# Altium schematic symbol library default_schematics_simon.SchLib: 96 symbols
Pins are listed as number, name and electrical type; pins without a type are passive.

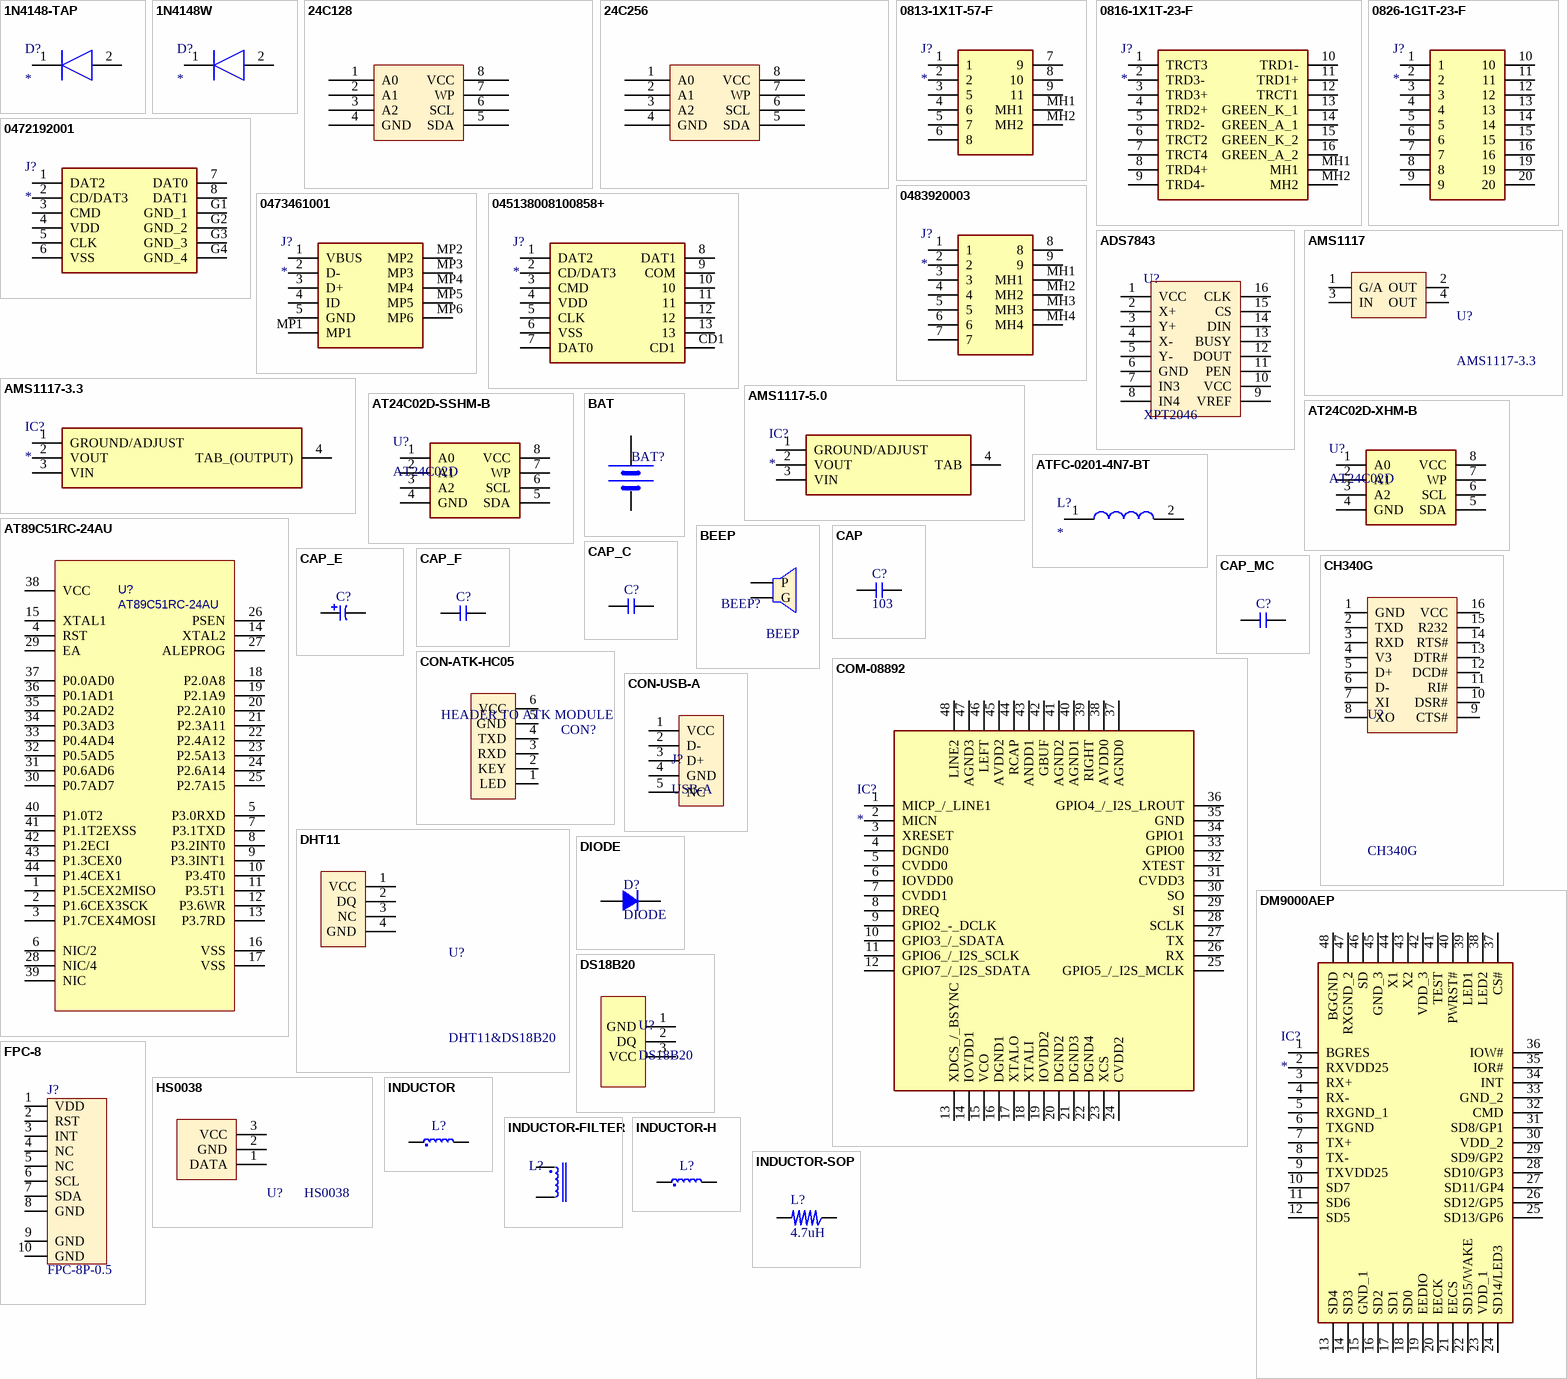
[diagram p0: symbols 1N4148-TAP to INDUCTOR-SOP]

## 1N4148-TAP
designator D?
Diode; Manufacturer_Name: Vishay; Manufacturer_Part_Number: 1N4148-TAP; Datasheet Link: https://componentsearchengine.com/Datasheets/1/1N4148-TAP.pdf; Arrow Part Number: 1N4148-TAP; Arrow Price/Stock: https://www.arrow.com/en/products/1n4148-tap/vishay; Mouser Part Number: 78-1N4148-TAP; Mouser Price/Stock: https://www.mouser.co.uk/ProductDetail/Vishay-Semiconductors/1N4148-TAP?qs=j6bfm3UnQnzzWicd%2FOfTEw%3D%3D
footprint DIOAD950W60L350D150
pins: 1 K, 2 A

## 1N4148W
designator D?
Diode; Manufacturer_Name: Vishay; Manufacturer_Part_Number: 1n4148w; Datasheet Link: http://www.vishay.com/docs/85748/1n4148w.pdf; Height: 1.35mm; Arrow Part Number: 1n4148w
footprint SOD3716X135N
pins: 1 K, 2 A

## 24C128
designator U?
CMOS I2C 2-WIRE BUS 128K ELECTRICALLY ERASABLE PROGRAMMABLE ROM 16K X 8 BIT EEPROM
footprint SOP8-4R0
pins: 1 A0, 2 A1, 3 A2, 4 GND, 5 SDA, 6 SCL, 7 WP, 8 VCC

## 24C256
designator U?
CMOS I2C 2-WIRE BUS 256K ELECTRICALLY ERASABLE PROGRAMMABLE ROM 32K X 8 BIT EEPROM
footprint SOP8-4R0
pins: 1 A0, 2 A1, 3 A2, 4 GND, 5 SDA, 6 SCL, 7 WP, 8 VCC

## 0813-1X1T-57-F
designator J?
Connector; Manufacturer_Name: Bel-Stewart; Manufacturer_Part_Number: 0813-1X1T-57-F; Datasheet Link: https://www.belfuse.com/resources/ICMs/ICMs%20Drawings/0813-1X1T-57-F.pdf; Height: 13mm; Arrow Part Number: 0813-1X1T-57-F; Arrow Price/Stock: https://www.arrow.com/en/products/0813-1x1t-57-f/bel-group; Mouser Part Number: 530-0813-1X1T-57-F
footprint 08131X1T57F
pins: 1, 2, 3 5, 4 6, 5 7, 6 8, 7 9, 8 10, 9 11, MH1, MH2

## 0816-1X1T-23-F
designator J?
Connector; Manufacturer_Name: Bel Magnetic Solutions; Manufacturer_Part_Number: 0816-1X1T-23-F; Datasheet Link: https://componentsearchengine.com/Datasheets/1/0816-1X1T-23-F.pdf; Height: 11.43mm; Arrow Part Number: 0816-1X1T-23-F; Mouser Part Number: 530-0816-1X1T-23-F; Mouser Price/Stock: https://www.mouser.com/Search/Refine.aspx?Keyword=530-0816-1X1T-23-F
footprint 08161X1T23F
pins: 1 TRCT3, 2 TRD3-, 3 TRD3+, 4 TRD2+, 5 TRD2-, 6 TRCT2, 7 TRCT4, 8 TRD4+, 9 TRD4-, 10 TRD1-, 11 TRD1+, 12 TRCT1, 13 GREEN_K_1, 14 GREEN_A_1, 15 GREEN_K_2, 16 GREEN_A_2, MH1, MH2

## 0826-1G1T-23-F
designator J?
Connector; Manufacturer_Name: Bel; Manufacturer_Part_Number: 0826-1G1T-23-F; Datasheet Link: https://belfuse.com/resources/StewartConnector/0826-1G1T-23-F.pdf; Height: 13.61mm; Arrow Part Number: 0826-1G1T-23-F; Mouser Part Number: 530-0826-1G1T-23-F
footprint 08261G1T23F
pins: 1, 2, 3, 4, 5, 6, 7, 8, 9, 10, 11, 12, 13, 14, 15, 16, 19, 20

## 0472192001
designator J?
Connector; Manufacturer_Name: Molex; Manufacturer_Part_Number: 0472192001; Datasheet Link: https://www.molex.com/pdm_docs/sd/472192001_sd.pdf; Height: 1.9mm; Arrow Part Number: 0472192001; Arrow Price/Stock: https://www.arrow.com/en/products/0472192001/molex; Mouser Part Number: N/A; Mouser Price/Stock: https://www.mouser.com/Search/Refine.aspx?Keyword=N%2FA
footprint 0472192001
pins: 1 DAT2, 2 CD/DAT3, 3 CMD, 4 VDD, 5 CLK, 6 VSS, 7 DAT0, 8 DAT1, G1 GND_1, G2 GND_2, G3 GND_3, G4 GND_4

## 0473461001
designator J?
Connector; Manufacturer_Name: Molex; Manufacturer_Part_Number: 0473461001; Datasheet Link: https://componentsearchengine.com/Datasheets/1/0473461001.pdf; Height: 2.45mm; Arrow Part Number: 0473461001; Arrow Price/Stock: https://www.arrow.com/en/products/0473461001/molex; Mouser Part Number: N/A; Mouser Price/Stock: https://www.mouser.com/Search/Refine.aspx?Keyword=N%2FA
footprint 0473461001
pins: 1 VBUS, 2 D-, 3 D+, 4 ID, 5 GND, MP1, MP2, MP3, MP4, MP5, MP6

## 0483920003
designator J?
Connector; Manufacturer_Name: Molex; Manufacturer_Part_Number: 0483920003; Datasheet Link: http://rhu103.sma-promail.com/SQLImages/kelmscott/Molex/PDF_Images/987651-0181.PDF; Height: 6.92mm; Arrow Part Number: 0483920003; Arrow Price/Stock: https://www.arrow.com/en/products/0483920003/molex; Mouser Part Number: N/A; Mouser Price/Stock: https://www.mouser.co.uk/ProductDetail/Molex/0483920003?qs=PBcRNPEHKso%252BRGJI%2FylU3A%3D%3D
footprint 0483920003
pins: 1, 2, 3, 4, 5, 6, 7, 8, 9, MH1, MH2, MH3, MH4

## 045138008100858+
designator J?
Connector; Manufacturer_Name: AVX; Manufacturer_Part_Number: 045138008100858+; Datasheet Link: https://www.mouser.sg/datasheet/2/909/5138-1359342.pdf; Height: 1.4mm; Arrow Part Number: 045138008100858+; Arrow Price/Stock: https://www.arrow.com/en/products/045138008100858/avx; Mouser Part Number: 581-045138008100858+; Mouser Price/Stock: https://www.mouser.com/Search/Refine.aspx?Keyword=581-045138008100858%2B
footprint 045138008100858
pins: 1 DAT2, 2 CD/DAT3, 3 CMD, 4 VDD, 5 CLK, 6 VSS, 7 DAT0, 8 DAT1, 9 COM, 10, 11, 12, 13, CD1

## ADS7843
designator U?, comment XPT2046
footprint SSOP16 (ADS7843,P2P:0.625mm,w:6mm)
pins: 1 VCC, 2 X+, 3 Y+, 4 X-, 5 Y-, 6 GND, 7 IN3, 8 IN4, 9 VREF, 10 VCC, 11 PEN, 12 DOUT, 13 BUSY, 14 DIN, 15 CS, 16 CLK

## AMS1117
designator U?, comment AMS1117-3.3
footprint SOT223
footprint SOT223-AMS1117 (AMS1117)
pins: 1 G/A, 2 OUT, 3 IN, 4 OUT

## AMS1117-3.3
designator IC?
Integrated Circuit; Manufacturer_Name: Advanced Monolithic Systems; Manufacturer_Part_Number: ams1117-3.3v; Datasheet Link: http://www.advanced-monolithic.com/pdf/ds1117.pdf; Height: 1.8mm; Arrow Part Number: ams1117-3.3v
footprint SOT229P700X180-4N
pins: 1 GROUND/ADJUST, 2 VOUT, 3 VIN, 4 TAB_(OUTPUT)

## AMS1117-5.0
designator IC?
Integrated Circuit; Manufacturer_Name: Advanced Monolithic Systems; Manufacturer_Part_Number: AMS1117-5.0; Datasheet Link: http://www.advanced-monolithic.com/pdf/ds1117.pdf; Height: 1.8mm; Arrow Part Number: AMS1117-5.0
footprint SOT229P700X180-4N
pins: 1 GROUND/ADJUST, 2 VOUT, 3 VIN, 4 TAB

## AT24C02D-SSHM-B
designator U?, comment AT24C02D
Integrated Circuit; Manufacturer_Name: Microchip; Manufacturer_Part_Number: AT24C02D-SSHM-B; Datasheet Link: http://www.atmel.com/images/Atmel-8871-SEEPROM-AT24C01D-02D-Datasheet.pdf; Height: 1.75mm; Arrow Part Number: AT24C02D-SSHM-B; Arrow Price/Stock: https://www.arrow.com/en/products/at24c02d-sshm-b/microchip-technology; Mouser Part Number: 556-AT24C02D-SSHM-B; Mouser Price/Stock: https://www.mouser.co.uk/ProductDetail/Microchip-Technology-Atmel/AT24C02D-SSHM-B?qs=l5F7KFZg3O5xH%2Fgf1EqmGg%3D%3D
footprint SOIC127P600X175-8N
pins: 1 A0, 2 A1, 3 A2, 4 GND, 5 SDA, 6 SCL, 7 WP, 8 VCC

## AT24C02D-XHM-B
designator U?, comment AT24C02D
Integrated Circuit; Manufacturer_Name: Microchip; Manufacturer_Part_Number: AT24C02D-XHM-B; Datasheet Link: http://www.atmel.com/images/Atmel-8871-SEEPROM-AT24C01D-02D-Datasheet.pdf; Height: 1.2mm; Arrow Part Number: AT24C02D-XHM-B; Arrow Price/Stock: https://www.arrow.com/en/products/at24c02d-xhm-b/microchip-technology; Mouser Part Number: 556-AT24C02D-XHM-B; Mouser Price/Stock: https://www.mouser.co.uk/ProductDetail/Microchip-Technology-Atmel/AT24C02D-XHM-B?qs=l5F7KFZg3O7B0M3qw2CUNw%3D%3D
footprint SOP65P640X120-8N
pins: 1 A0, 2 A1, 3 A2, 4 GND, 5 SDA, 6 SCL, 7 WP, 8 VCC

## AT89C51RC-24AU
designator U?
BOM_Manufacturer: MICROCHIP; SMT Type: Extend; BOM_Supplier: LCSC; BOM_Manufacturer Part: AT89C51RC-24AU; BOM_Supplier Part: C8729; BOM_LCSC Assembly: Yes; spicePre: U
footprint TQFP44N-80P1200X1200X160 (TQFP, 44-Leads, Body 10.00x10.00mm, Pitch 0.80mm, IPC Medium Density)
pins: 1 P1.5CEX2MISO, 2 P1.6CEX3SCK, 3 P1.7CEX4MOSI, 4 RST, 5 P3.0RXD, 6 NIC/2, 7 P3.1TXD, 8 P3.2INT0, 9 P3.3INT1, 10 P3.4T0, 11 P3.5T1, 12 P3.6WR, 13 P3.7RD, 14 XTAL2, 15 XTAL1, 16 VSS, 17 VSS, 18 P2.0A8, 19 P2.1A9, 20 P2.2A10, 21 P2.3A11, 22 P2.4A12, 23 P2.5A13, 24 P2.6A14, 25 P2.7A15, 26 PSEN, 27 ALEPROG, 28 NIC/4, 29 EA, 30 P0.7AD7, 31 P0.6AD6, 32 P0.5AD5, 33 P0.4AD4, 34 P0.3AD3, 35 P0.2AD2, 36 P0.1AD1, 37 P0.0AD0, 38 VCC, 39 NIC, 40 P1.0T2, 41 P1.1T2EXSS, 42 P1.2ECI, 43 P1.3CEX0, 44 P1.4CEX1

## ATFC-0201-4N7-BT
designator L?
Inductor; Manufacturer_Name: ABRACON; Manufacturer_Part_Number: ATFC-0201-4N7-BT; Datasheet Link: http://www.abracon.com/Magnetics/new/ATFC-0201.pdf; Height: 0.28mm; Arrow Part Number: ATFC-0201-4N7-BT; Mouser Part Number: 815-ATFC-0201-4N7-BT; Mouser Price/Stock: https://www.mouser.co.uk/ProductDetail/ABRACON/ATFC-0201-4N7-BT?qs=Y3s8Jkk9bu%252Bj8bjETue%2FCw%3D%3D
footprint INDC0603X28N
pins: 1, 2

## BAT
designator BAT?, comment BATT  (value not drawn)
BATTERY
footprint BATM-CR1220 (BATTERY)
pins: 1 VCC, 2 GND

## BEEP
designator BEEP?
footprint BELL-7R6-12 (TMB12A05,TMB12A03,HYT-1201,HYT-1203,HYT-1205)
pins: 1 P, 2 G

## CAP
designator C?, comment 103
Capacitor, SMD, 103,104
footprint 0603C
footprint 0402C
footprint 0805C
footprint 1206C
pins: 1, 1

## CAP_C
designator C?, comment 102/1kV  (value not drawn)
Ceramic Capacitor,KM,KP,RH,HP,RT,RS,GK,GT,blue
footprint CAPC-2R0X5R0-0R8
footprint CAPC-2R5X6R0-0R8
footprint CAPC-2R5X6R3-0R8
footprint CAPC-3R5X8R0-0R8
footprint cApc-5r0x10r0-0r9
footprint CAPC-SM-1R0X4R0-1
footprint CAPC-SM-1R4X5R0-1
footprint CAPC-SM-4R0X13R6
pins: 1, 1

## CAP_E
designator C?, comment 2uF  (value not drawn)
Electronic Capacitor, black
footprint CAPC-2R0X5R0-0R8
footprint CAPC-2R5X6R0-0R8
footprint CAPC-2R5X6R3-0R8
footprint CAPC-3R5X8R0-0R8
footprint CAPC-SM-1R0X4R0-1
footprint CAPC-SM-1R4X5R0-1
footprint CAPC-SM-4R0X13R6
pins: 1, 1

## CAP_F
designator C?, comment 103  (value not drawn)
Film Capacitor,square,yellow
pins: 1, 1

## CAP_MC
designator C?, comment 47uF  (value not drawn)
Multiplayer Ceramic Capacitor,little yellow
pins: 1, 1

## CH340G
designator U?
USB 2.0 to UART interface, 3.3V/5V
footprint SOP16M
pins: 1 GND, 2 TXD, 3 RXD, 4 V3, 5 D+, 6 D-, 7 XI, 8 XO, 9 CTS#, 10 DSR#, 11 RI#, 12 DCD#, 13 DTR#, 14 RTS#, 15 R232, 16 VCC

## COM-08892
designator IC?
Integrated Circuit; Manufacturer_Name: SparkFun; Manufacturer_Part_Number: COM-08892; Datasheet Link: https://www.google.co.jp/url?sa=t&rct=j&q=&esrc=s&source=web&cd=1&cad=rja&uact=8&ved=0ahUKEwiAkKC8ipDWAhWEWrwKHciZB0kQFggpMAA&url=https%3A%2F%2Fwww.sparkfun.com%2Fdatasheets%2FComponents%2FSMD%2Fvs1053.pdf&usg=AFQjCNGfjeIOxgMtdfoxEnZ7Zp1IsEDwzA; Height: 1.6mm; Arrow Part Number: COM-08892; Arrow Price/Stock: https://www.arrow.com/en/products/com-08892/sparkfun-electronics; Mouser Part Number: 474-COM-08892; Mouser Price/Stock: https://www.mouser.co.uk/ProductDetail/SparkFun/COM-08892?qs=WyAARYrbSnaNGwJFLRexLg%3D%3D
footprint QFP50P900X900X160-48N
pins: 1 MICP_/_LINE1, 2 MICN, 3 XRESET, 4 DGND0, 5 CVDD0, 6 IOVDD0, 7 CVDD1, 8 DREQ, 9 GPIO2_-_DCLK, 10 GPIO3_/_SDATA, 11 GPIO6_/_I2S_SCLK, 12 GPIO7_/_I2S_SDATA, 13 XDCS_/_BSYNC, 14 IOVDD1, 15 VCO, 16 DGND1, 17 XTALO, 18 XTALI, 19 IOVDD2, 20 DGND2, 21 DGND3, 22 DGND4, 23 XCS, 24 CVDD2, 25 GPIO5_/_I2S_MCLK, 26 RX, 27 TX, 28 SCLK, 29 SI, 30 SO, 31 CVDD3, 32 XTEST, 33 GPIO0, 34 GPIO1, 35 GND, 36 GPIO4_/_I2S_LROUT, 37 AGND0, 38 AVDD0, 39 RIGHT, 40 AGND1, 41 AGND2, 42 GBUF, 43 ANDD1, 44 RCAP, 45 AVDD2, 46 LEFT, 47 AGND3, 48 LINE2

## CON-ATK-HC05
designator CON?, comment HEADER TO ATK MODULE
footprint HDR6 (6PIN X 2.54MM)
pins: 1 LED, 2 KEY, 3 RXD, 4 TXD, 5 GND, 6 VCC

## CON-USB-A
designator J?, comment USB-A
USB-A-SON
footprint USB-SM0R8-6H5
pins: 1 VCC "+5V", 2 D- "DATA -", 3 D+ "DATA +", 4 GND, 5 NC "GND"

## DHT11
designator U?, comment DHT11&DS18B20
数字温湿度传感器
footprint DHT11 (2.54mm)
pins: 1 VCC, 2 DQ, 3 NC, 4 GND

## DIODE
designator D?
footprint DIODE-SOP
footprint DIODE-3R0X5R3
footprint SOD-123 (2 pads, 1.8mm x 0.8mm)
pins: 1, 2

## DM9000AEP
designator IC?
Integrated Circuit; Manufacturer_Name: DAVICOM; Manufacturer_Part_Number: DM9000AEP; Datasheet Link: https://datasheet.lcsc.com/szlcsc/DAVICOM-DM9000AEP_C14875.pdf; Height: 1.6mm; Arrow Part Number: DM9000AEP
footprint QFP50P900X900X160-48N
pins: 1 BGRES, 2 RXVDD25, 3 RX+, 4 RX-, 5 RXGND_1, 6 TXGND, 7 TX+, 8 TX-, 9 TXVDD25, 10 SD7, 11 SD6, 12 SD5, 13 SD4, 14 SD3, 15 GND_1, 16 SD2, 17 SD1, 18 SD0, 19 EEDIO, 20 EECK, 21 EECS, 22 SD15/WAKE, 23 VDD_1, 24 SD14/LED3, 25 SD13/GP6, 26 SD12/GP5, 27 SD11/GP4, 28 SD10/GP3, 29 SD9/GP2, 30 VDD_2, 31 SD8/GP1, 32 CMD, 33 GND_2, 34 INT, 35 IOR#, 36 IOW#, 37 CS#, 38 LED2, 39 LED1, 40 PWRST#, 41 TEST, 42 VDD_3, 43 X2, 44 X1, 45 GND_3, 46 SD, 47 RXGND_2, 48 BGGND

## DS18B20
designator U?
Programmable Resolution 1-Wire Digital Thermometer
footprint TO92-1
footprint SOIC8 (SOIC8, total 7 pins without pin 7); pin to pad 1>5 2>4
pins: 1 GND, 2 DQ, 3 VCC

## FPC-8
designator J?, comment FPC-8P-0.5
FPC-8P-0.5mm
footprint FPC50
footprint FPC-8P (FPC;8P;0.5mm;)
pins: 1 VDD, 2 RST, 3 INT, 4 NC, 5 NC, 6 SCL, 7 SDA, 8 GND, 9 GND, 10 GND
2 alternate drawings of the same symbol

## HS0038
designator U?
footprint HS0038
pins: 1 DATA, 2 GND, 3 VCC

## INDUCTOR
designator L?, comment Inductor  (value not drawn)
footprint 0402L
pins: 1, 2

## INDUCTOR-FILTER
designator L?, comment Toradil Filtering-Inductor  (value not drawn)
Toroidal Filtering-Inductor,50~500kHz
pins: F, S

## INDUCTOR-H
designator L?, comment Inductor H-shaped  (value not drawn)
H-shaped
footprint IND-LH3x4-0R5 (Inductor H-shaped 3x4)
pins: 1, 2

## INDUCTOR-SOP
designator L?, comment 4.7uH
INDUCTOR-SOP
footprint L_SOPL (L_LARGE)
footprint L_SOPS (L_4*4)
footprint L10 (10mH)
footprint L-SOP74
pins: 1, 2

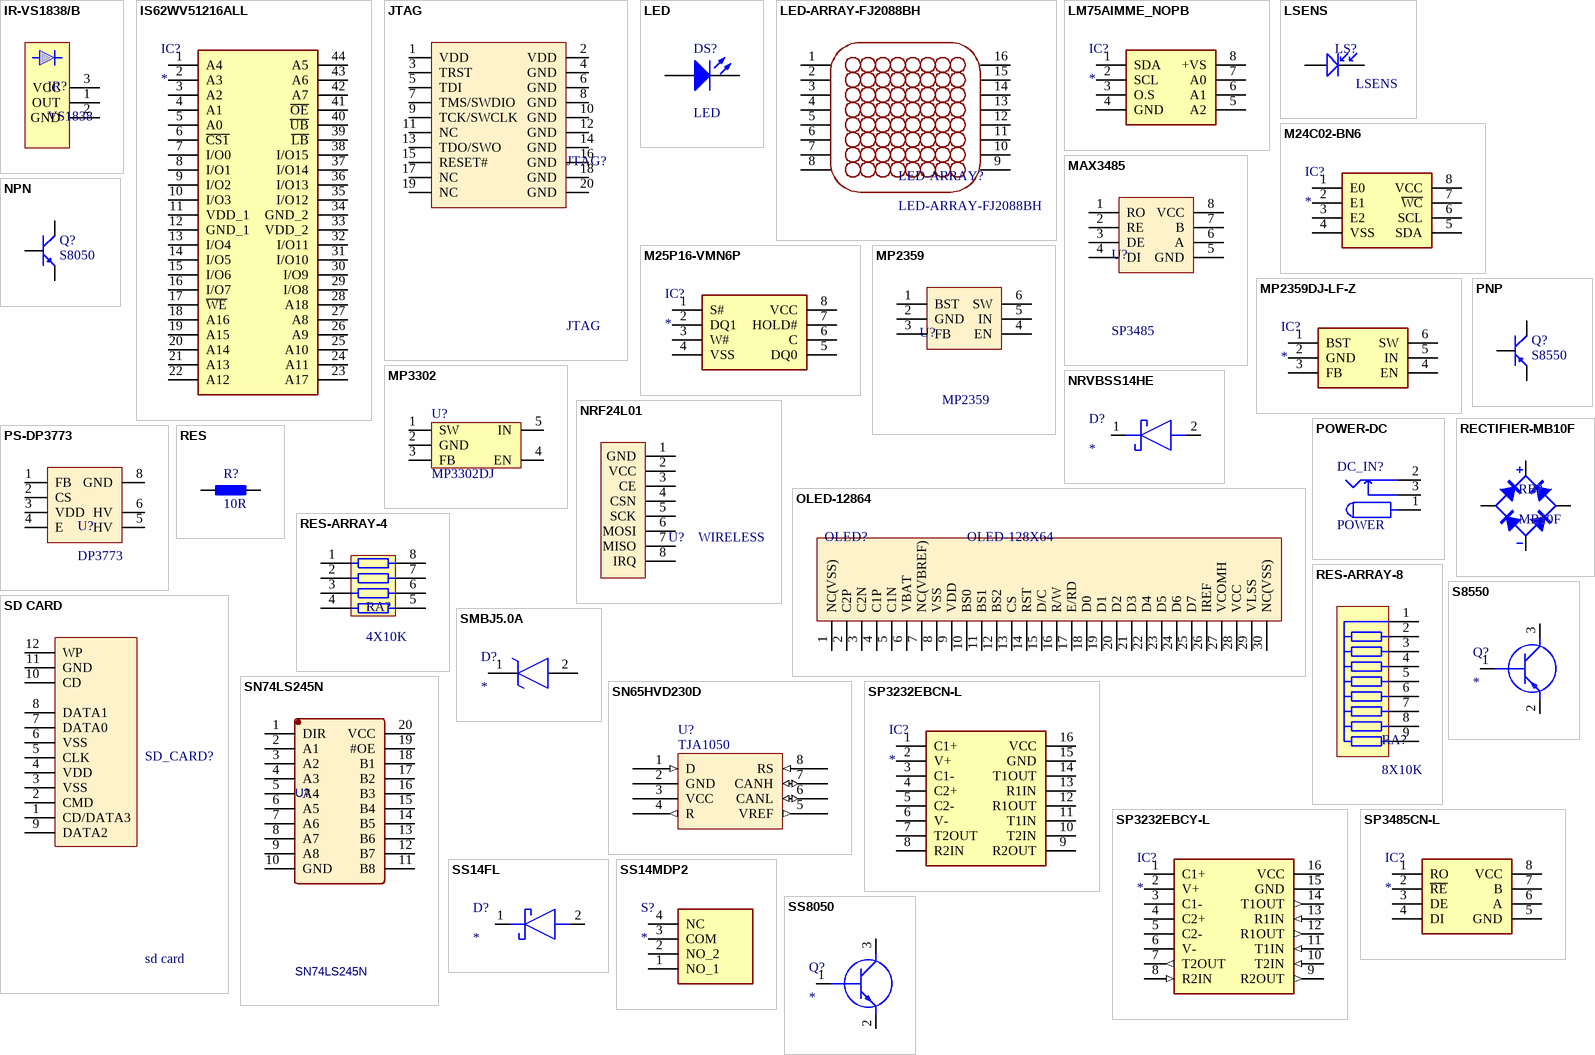
[diagram p1: symbols IR-VS1838/B to SS8050]

## IR-VS1838/B
designator IR?, comment VS1838
Infrared Receiver Module
footprint IR-VS1838/B
pins: 1 OUT, 2 GND, 3 VCC

## IS62WV51216ALL
designator IC?
Integrated Circuit; Manufacturer_Name: Integrated Silicon Solution Inc.; Manufacturer_Part_Number: IS62WV51216ALL; Datasheet Link: https://www.mouser.cn/datasheet/2/198/62WV51216ALL-258554.pdf; Height: 1.2mm; Arrow Part Number: IS62WV51216ALL; Mouser Part Number: N/A; Mouser Price/Stock: https://www.mouser.com/Search/Refine.aspx?Keyword=N%2FA
footprint SOP80P1176X120-44N
pins: 1 A4, 2 A3, 3 A2, 4 A1, 5 A0, 6 ~{CS1}, 7 I/O0, 8 I/O1, 9 I/O2, 10 I/O3, 11 VDD_1, 12 GND_1, 13 I/O4, 14 I/O5, 15 I/O6, 16 I/O7, 17 ~{WE}, 18 A16, 19 A15, 20 A14, 21 A13, 22 A12, 23 A17, 24 A11, 25 A10, 26 A9, 27 A8, 28 A18, 29 I/O8, 30 I/O9, 31 I/O10, 32 I/O11, 33 VDD_2, 34 GND_2, 35 I/O12, 36 I/O13, 37 I/O14, 38 I/O15, 39 ~{LB}, 40 ~{UB}, 41 ~{OE}, 42 A7, 43 A6, 44 A5

## JTAG
designator JTAG?
JTAG 20PIN
footprint JTAG_20 (JTAG,20PIN)
pins: 1 VDD, 2 VDD, 3 TRST, 4 GND, 5 TDI, 6 GND, 7 TMS/SWDIO, 8 GND, 9 TCK/SWCLK, 10 GND, 11 NC, 12 GND, 13 TDO/SWO, 14 GND, 15 RESET#, 16 GND, 17 NC, 18 GND, 19 NC, 20 GND

## LED
designator DS?
Typical RED, GREEN, YELLOW, AMBER GaAs LED; Published: 8-Jun-2000; LatestRevisionDate: 17-Jul-2002; LatestRevisionNote: Re-released for DXP Platform.; PackageDocument: Feb-2002; PackageReference: 3.2X1.6X1.1; Publisher: Altium Limited
footprint SMDLED
simulation model LED2 (Diode)
pins: 1 A, 2 K

## LED-ARRAY-FJ2088BH
designator LED-ARRAY?
8X8,RED,60.9X60.9,0R5; ComponentLink1Description: New link; ComponentLink1URL: https://item.szlcsc.com/54094.html
footprint LED-FJ2088BH
pins: 1, 2, 3, 4, 5, 6, 7, 8, 9, 10, 11, 12, 13, 14, 15, 16

## LM75AIMME_NOPB
designator IC?
Integrated Circuit; Manufacturer_Name: Texas Instruments; Manufacturer_Part_Number: LM75AIMME/NOPB; Description: &plusmn;2&deg;C; Datasheet Link: http://www.ti.com/lit/gpn/lm75a; Height: 1.1mm; Arrow Part Number: LM75AIMME/NOPB; Arrow Price/Stock: https://www.arrow.com/en/products/lm75aimmenopb/texas-instruments; Mouser Part Number: 926-LM75AIMME/NOPB; Mouser Price/Stock: https://www.mouser.co.uk/ProductDetail/Texas-Instruments/LM75AIMME-NOPB?qs=QbsRYf82W3G1kdVTjLoH3g%3D%3D
footprint SOP65P490X110-8N
pins: 1 SDA, 2 SCL, 3 O.S, 4 GND, 5 A2, 6 A1, 7 A0, 8 +VS

## LSENS
designator LS?
LIGHT SENS
footprint SMDLED
pins: 1, 2

## M24C02-BN6
designator IC?
Integrated Circuit; Manufacturer_Name: STMicroelectronics; Manufacturer_Part_Number: M24C02-BN6; Datasheet Link: http://datasheet.octopart.com/M24C02-BN6-STMicroelectronics-datasheet-2222.pdf; Height: 5.33mm; Arrow Part Number: M24C02-BN6
footprint DIP762W56P254L959H533Q8N
pins: 1 E0, 2 E1, 3 E2, 4 VSS, 5 SDA, 6 SCL, 7 ~{WC}, 8 VCC

## M25P16-VMN6P
designator IC?
Integrated Circuit; Manufacturer_Name: Micron; Manufacturer_Part_Number: M25P16-VMN6P; Description: Micron M25P16-VMN6P; Datasheet Link: https://www.micron.com/~/media/documents/products/data-sheet/nor-flash/serial-nor/m25p/m25p16.pdf; Height: 1.75mm; Arrow Part Number: M25P16-VMN6P; Arrow Price/Stock: https://www.arrow.com/en/products/m25p16-vmn6p/micron-technology; Mouser Part Number: 340-180484; Mouser Price/Stock: https://www.mouser.com/Search/Refine.aspx?Keyword=340-180484
footprint SOIC127P600X175-8N
pins: 1 S#, 2 DQ1, 3 W#, 4 VSS, 5 DQ0, 6 C, 7 HOLD#, 8 VCC

## MAX3485
designator U?, comment SP3485
MAX3485/SP3485
footprint SOP8
pins: 1 RO, 2 RE, 3 DE, 4 DI, 5 GND, 6 A, 7 B, 8 VCC

## MP2359
designator U?
DC DC Step Down IC
footprint SOT23-6
pins: 1 BST, 2 GND, 3 FB, 4 EN, 5 IN, 6 SW

## MP2359DJ-LF-Z
designator IC?
Integrated Circuit; Manufacturer_Name: Monolithic Power Systems (MPS); Manufacturer_Part_Number: MP2359DJ-LF-Z; Datasheet Link: http://www.mouser.com/ds/2/277/MP2359_r1.21-477634.pdf; Height: 1mm; Arrow Part Number: MP2359DJ-LF-Z; Mouser Part Number: 946-MP2359DJLFZ; Mouser Price/Stock: https://www.mouser.co.uk/ProductDetail/Monolithic-Power-Systems-MPS/MP2359DJ-LF-Z?qs=rC7bBWoQAAkgAaURxgQSyA%3D%3D
footprint SOT95P280X100-6N
pins: 1 BST, 2 GND, 3 FB, 4 EN, 5 IN, 6 SW

## MP3302
designator U?, comment MP3302DJ
LCD背光IC
footprint SOT-23-5
pins: 1 SW, 2 GND, 3 FB, 4 EN, 5 IN

## NPN
designator Q?, comment S8050
8050/BCW846/BCW847
footprint SOT23-R
pins: 1 E, 2 B, 3 C

## NRF24L01
designator U?, comment WIRELESS
WIRELESS NRF24L01 PORT
footprint HDR4X2
pins: 1 GND, 2 VCC, 3 CE, 4 CSN, 5 SCK, 6 MOSI, 7 MISO, 8 IRQ

## NRVBSS14HE
designator D?
Schottky Diode; Manufacturer_Name: ON Semiconductor; Manufacturer_Part_Number: NRVBSS14HE; Datasheet Link: https://www.onsemi.com/pub/Collateral/SS13HE-D.PDF; Height: 0.75mm; Arrow Part Number: NRVBSS14HE; Mouser Part Number: 863-NRVBSS14HE; Mouser Price/Stock: https://www.mouser.co.uk/ProductDetail/ON-Semiconductor/NRVBSS14HE?qs=%252BEew9%252B0nqrDZWtBeWXq9Sw%3D%3D
footprint NRVBSS14HE
pins: 1 K, 2 A

## OLED-12864
designator OLED?, comment OLED-128X64
OLED128X64
footprint OLED_0.96-30PIN
pins: 1 NC(VSS), 2 C2P, 3 C2N, 4 C1P, 5 C1N, 6 VBAT, 7 NC(VBREF), 8 VSS, 9 VDD, 10 BS0, 11 BS1, 12 BS2, 13 CS, 14 RST, 15 D/C, 16 R/W, 17 E/RD, 18 D0, 19 D1, 20 D2, 21 D3, 22 D4, 23 D5, 24 D6, 25 D7, 26 IREF, 27 VCOMH, 28 VCC, 29 VLSS, 30 NC(VSS)

## PNP
designator Q?, comment S8550
8550/BCW68
footprint SOT23-R
pins: 1 E, 2 B, 3 C

## POWER-DC
designator DC_IN?, comment POWER
DC_IN
footprint POWER (DC_IN)
footprint POWER-DC10B (DC POWERE INPUT)
pins: 1, 2, 3

## PS-DP3773
designator U?, comment DP3773
Quasi-Resonant PSR CC/CV PWM Power Switch,DP3773A/B/C/D/E; ComponentLink1Description: Link; ComponentLink1URL: http://www.depuw.com/productsearch.aspx?categoryid=50&Keywords=DP3773
footprint SOIC8-7 (SOIC8, total 7 pins without pin 7)
pins: 1 FB, 2 CS, 3 VDD, 4 E, 5 HV, 6 HV, 8 GND

## RECTIFIER-MB10F
designator RB?, comment MB10F
RECTIFIER-MB10F
footprint REC-MB10F (BRIDGE RECTIFIER)
pins: 1, 2, 2 4 "-", 2 3 "+"

## RES
designator R?, comment 10R
Resistor,10R,100K,10K
footprint 0402R
footprint 0603R
footprint 0805R
footprint 1206R
footprint R-AXIAL-0.3
footprint R-AXIAL-0.4
footprint R-AXIAL-0.5
footprint R-AXIAL-0.6
footprint R-AXIAL-0.7
pins: 1, 2

## RES-ARRAY-4
designator RA?, comment 4X10K
Resistor Network,4X10KOhm,0402/0603/1608
pins: 1, 2, 3, 4, 5, 6, 7, 8

## RES-ARRAY-8
designator RA?, comment 8X10K
Resistor Network,8X10KOhm,  9SIP
footprint RA-9PIN-8R
pins: 1, 2, 3, 4, 5, 6, 7, 8, 9

## S8550
designator Q?
Transistor BJT PNP; Manufacturer_Name: Galaxy; Manufacturer_Part_Number: S8550; Datasheet Link: http://www.gmicroelec.com/KUpload/product/TR/S8550%20SOT-23.pdf; Height: 1.1mm; Arrow Part Number: S8550
footprint SOT95P240X110-3N
pins: 1 B, 2 E, 3 C

## SD CARD
designator SD_CARD?, comment sd card
footprint SDCARD_S (SDCARD_SMALL)
footprint SDCARD_L
pins: 1 CD/DATA3, 2 CMD, 3 VSS, 4 VDD, 5 CLK, 6 VSS, 7 DATA0, 8 DATA1, 9 DATA2, 10 CD, 11 GND, 12 WP

## SMBJ5.0A
designator D?
TVS Diode (Uni-directional); Manufacturer_Name: Vishay; Manufacturer_Part_Number: SMBJ5.0A; Datasheet Link: http://www.vishay.com/docs/88392/smbj.pdf; Height: 2.44mm; Arrow Part Number: SMBJ5.0A
footprint DIOM5436X244N
pins: 1 K, 2 A

## SN65HVD230D
designator U?, comment TJA1050
TJA1050, SN65HVD230D
footprint SOP8
footprint SO8-150
pins: 1 D (in), 2 GND (power), 3 VCC (power), 4 R (out), 5 VREF (out), 6 CANL (io), 7 CANH (io), 8 RS (in)
2 alternate drawings of the same symbol

## SN74LS245N
designator U?
BOM_Manufacturer: Texas Instruments; Contributor: LCSC; BOM_Supplier: LCSC; BOM_Supplier Part: C352966; BOM_Manufacturer Part: SN74LS245N; spicePre: U; spiceSymbolName: SN74LS245N
footprint DIP794W53P254L2540H508Q20N
pins: 1 DIR, 2 A1, 3 A2, 4 A3, 5 A4, 6 A5, 7 A6, 8 A7, 9 A8, 10 GND, 11 B8, 12 B7, 13 B6, 14 B5, 15 B4, 16 B3, 17 B2, 18 B1, 19 #OE, 20 VCC

## SP3232EBCN-L
designator IC?
Integrated Circuit; Manufacturer_Name: EXAR; Manufacturer_Part_Number: SP3232EBCN-L; Datasheet Link: http://uk.rs-online.com/web/p/products/6865500; Height: 1.75mm; Arrow Part Number: SP3232EBCN-L; Arrow Price/Stock: https://www.arrow.com/en/products/sp3232ebcn-l/exar; Mouser Part Number: 701-SP3232EBCN-L; Mouser Price/Stock: https://www.mouser.com/Search/Refine.aspx?Keyword=701-SP3232EBCN-L
footprint SOIC127P600X175-16N
pins: 1 C1+, 2 V+, 3 C1-, 4 C2+, 5 C2-, 6 V-, 7 T2OUT, 8 R2IN, 9 R2OUT, 10 T2IN, 11 T1IN, 12 R1OUT, 13 R1IN, 14 T1OUT, 15 GND, 16 VCC

## SP3232EBCY-L
designator IC?
Integrated Circuit; Manufacturer_Name: EXAR; Manufacturer_Part_Number: SP3232EBCY-L; Datasheet Link: https://www.exar.com/common/content/document.ashx?id=632.pdf; Height: 1.2mm; Arrow Part Number: SP3232EBCY-L; Arrow Price/Stock: https://www.arrow.com/en/products/sp3232ebcy-l/exar; Mouser Part Number: 701-SP3232EBCY-L
footprint SOP65P640X120-16N
pins: 1 C1+, 2 V+, 3 C1-, 4 C2+, 5 C2-, 6 V-, 7 T2OUT (out), 8 R2IN (in), 9 R2OUT (out), 10 T2IN (in), 11 T1IN (in), 12 R1OUT (out), 13 R1IN (in), 14 T1OUT (out), 15 GND (power), 16 VCC (power)

## SP3485CN-L
designator IC?
Integrated Circuit; Manufacturer_Name: EXAR; Manufacturer_Part_Number: SP3485CN-L; Datasheet Link: https://www.exar.com/ds/sp3485_100_061912.pdf; Height: 1.75mm; Arrow Part Number: SP3485CN-L; Arrow Price/Stock: https://www.arrow.com/en/products/sp3485cn-l/exar; Mouser Part Number: 701-SP3485CN-L; Mouser Price/Stock: https://www.mouser.com/Search/Refine.aspx?Keyword=701-SP3485CN-L
footprint SOIC127P600X175-8N
pins: 1 RO, 2 ~{RE}, 3 DE, 4 DI, 5 GND, 6 A, 7 B, 8 VCC

## SS14FL
designator D?
Schottky Diode; Manufacturer_Name: ON Semiconductor; Manufacturer_Part_Number: SS14FL; Datasheet Link: http://www.onsemi.com/pub/Collateral/SS14FL-D.PDF; Height: 1.08mm; Arrow Part Number: SS14FL; Arrow Price/Stock: https://www.arrow.com/en/products/ss14fl/on-semiconductor; Mouser Part Number: 512-SS14FL; Mouser Price/Stock: https://www.mouser.co.uk/ProductDetail/ON-Semiconductor-Fairchild/SS14FL?qs=tqW9UTzndZz8XxVZxr%252BlfQ%3D%3D
footprint SODFL3617X108N
pins: 1 K, 2 A

## SS14MDP2
designator S?
Switch; Manufacturer_Name: NKK Switches; Manufacturer_Part_Number: SS14MDP2; Datasheet Link: http://www.nkkswitches.com/pdf/SSnonilluminated.pdf; Height: 6.5mm; Arrow Part Number: SS14MDP2; Arrow Price/Stock: https://www.arrow.com/en/products/ss14mdp2/nkk-switches; Mouser Part Number: 633-SS14MDP2; Mouser Price/Stock: https://www.mouser.co.uk/ProductDetail/NKK-Switches/SS14MDP2?qs=tJRqkAIQG4xAbyvlpPIZ4A%3D%3D
footprint SS14MDP2
pins: 1 NO_1, 2 NO_2, 3 COM, 4 NC

## SS8050
designator Q?
Transistor BJT NPN; Manufacturer_Name: Comchip Technology; Manufacturer_Part_Number: SS8050-G; Datasheet Link: http://www.comchiptech.com/admin/files/product/SS8050-G%20RevA181526.pdf; Height: 1.15mm; Arrow Part Number: SS8050-G; Arrow Price/Stock: https://www.arrow.com/en/products/ss8050-g/comchip-technology; Mouser Part Number: 750-SS8050-G; Mouser Price/Stock: https://www.mouser.co.uk/ProductDetail/Comchip-Technology/SS8050-G?qs=LLUE9lz1YbcHg%252BWLMAtcrQ%3D%3D
footprint SOT95P240X115-3N
footprint TO260P419X476X877-3P
pins: 1 B, 2 E, 3 C

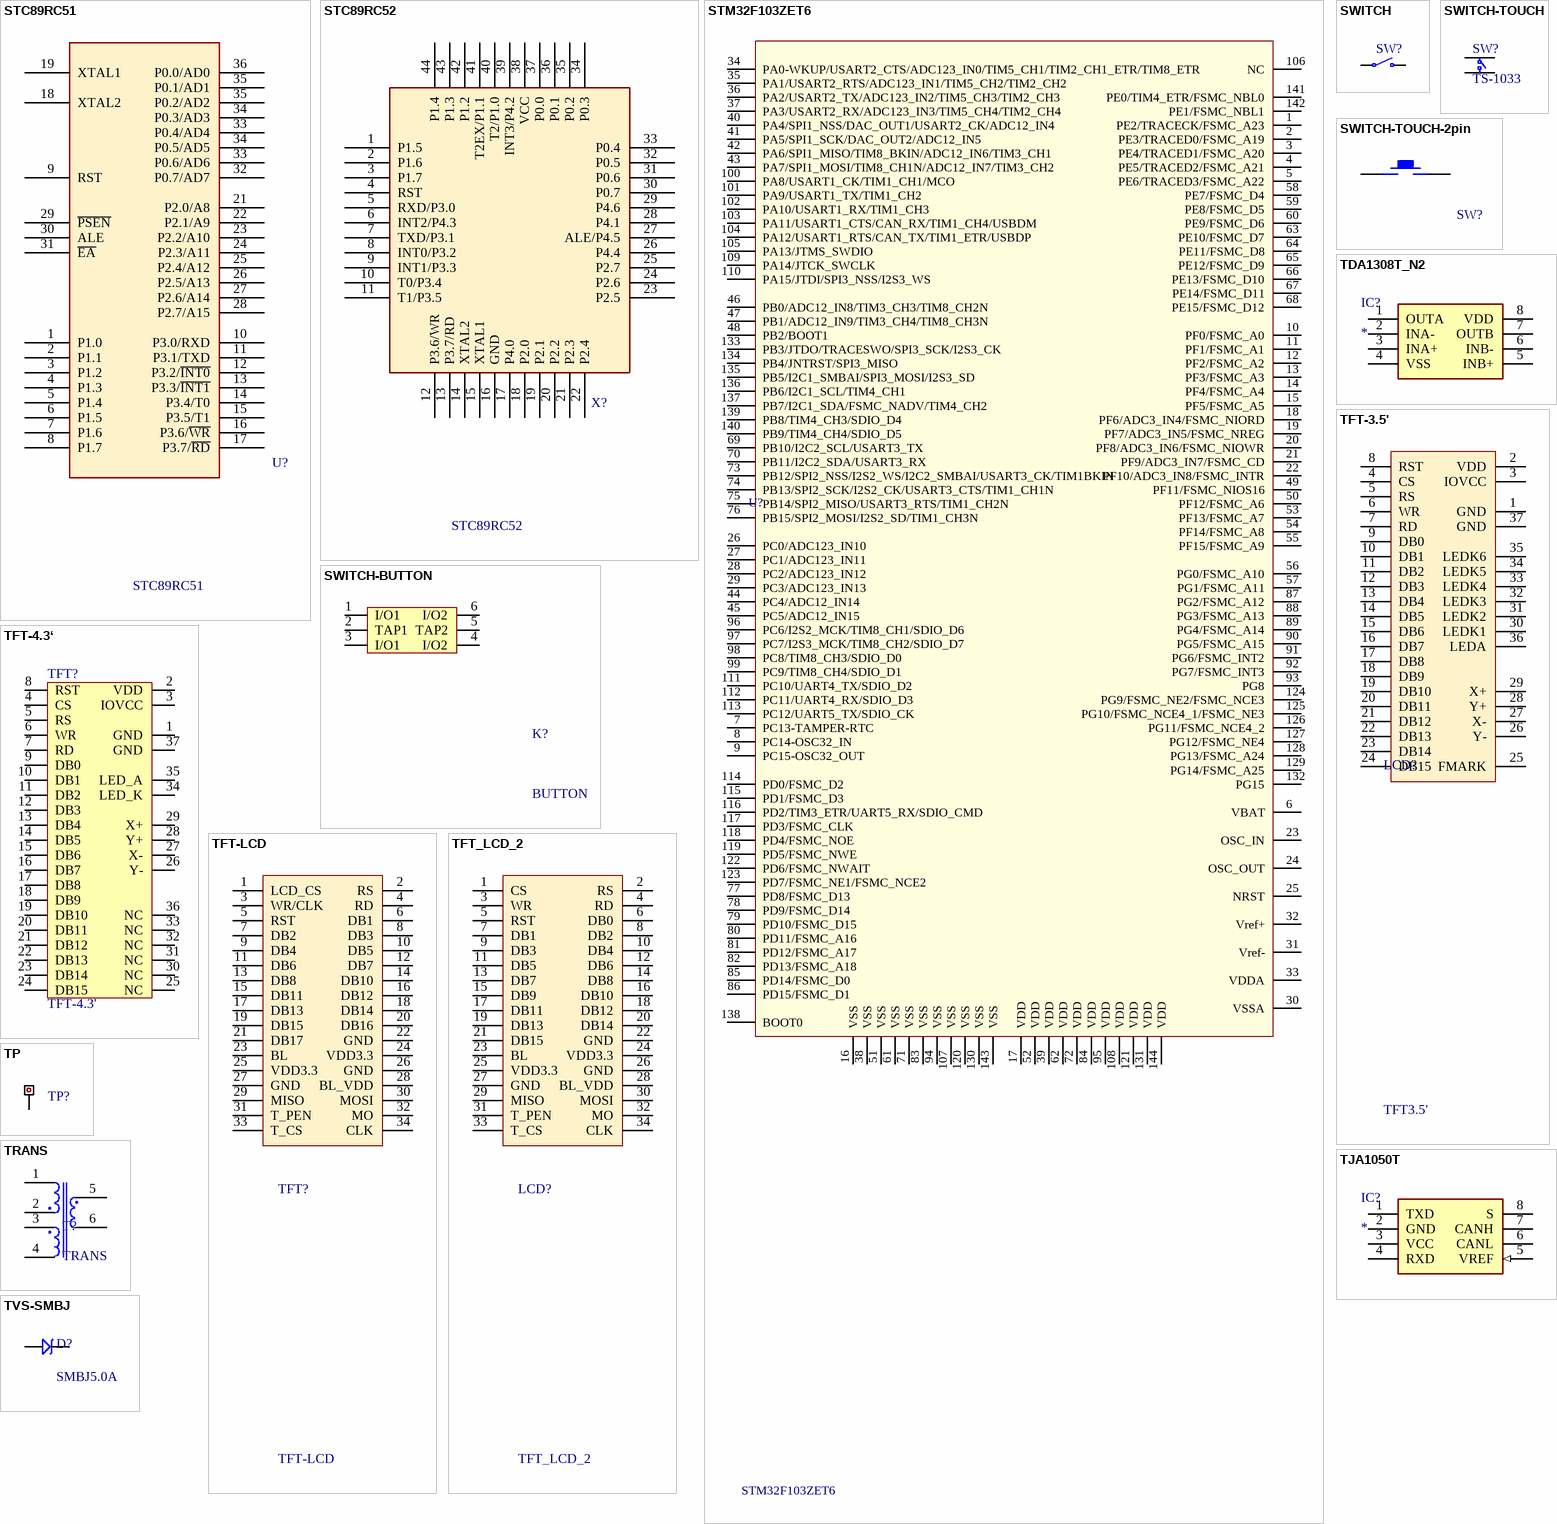
[diagram p2: symbols STC89RC51 to TVS-SMBJ]

## STC89RC51
designator U?
footprint TQFP80P1200X1200X160-44N (TQFP, 44-Leads, Body 10.00x10.00mm, Pitch 0.80mm, IPC Medium Density)
pins: 1 P1.0, 2 P1.1, 3 P1.2, 4 P1.3, 5 P1.4, 6 P1.5, 7 P1.6, 8 P1.7, 9 RST, 10 P3.0/RXD, 11 P3.1/TXD, 12 P3.2/~{INT0}, 13 P3.3/~{INT1}, 14 P3.4/T0, 15 P3.5/T1, 16 P3.6/~{WR}, 17 P3.7/~{RD}, 18 XTAL2, 19 XTAL1, 21 P2.0/A8, 22 P2.1/A9, 23 P2.2/A10, 24 P2.3/A11, 25 P2.4/A12, 26 P2.5/A13, 27 P2.6/A14, 28 P2.7/A15, 29 ~{PSEN}, 30 ALE, 31 ~{EA}, 32 P0.7/AD7, 33 P0.6/AD6, 33 P0.4/AD4, 34 P0.5/AD5, 34 P0.3/AD3, 35 P0.2/AD2, 35 P0.1/AD1, 36 P0.0/AD0

## STC89RC52
designator X?
footprint TQFP80P1200X1200X160-44N (TQFP, 44-Leads, Body 10.00x10.00mm, Pitch 0.80mm, IPC Medium Density)
pins: 1 P1.5, 2 P1.6, 3 P1.7, 4 RST, 5 RXD/P3.0, 6 INT2/P4.3, 7 TXD/P3.1, 8 INT0/P3.2, 9 INT1/P3.3, 10 T0/P3.4, 11 T1/P3.5, 12 P3.6/WR, 13 P3.7/RD, 14 XTAL2, 15 XTAL1, 16 GND, 17 P4.0, 18 P2.0, 19 P2.1, 20 P2.2, 21 P2.3, 22 P2.4, 23 P2.5, 24 P2.6, 25 P2.7, 26 P4.4, 27 ALE/P4.5, 28 P4.1, 29 P4.6, 30 P0.7, 31 P0.6, 32 P0.5, 33 P0.4, 34 P0.3, 35 P0.2, 36 P0.1, 37 P0.0, 38 VCC, 39 INT3/P4.2, 40 T2/P1.0, 41 T2EX/P1.1, 42 P1.2, 43 P1.3, 44 P1.4

## STM32F103ZET6
designator U?
footprint LQFP144
pins: 1 PE2/TRACECK/FSMC_A23, 2 PE3/TRACED0/FSMC_A19, 3 PE4/TRACED1/FSMC_A20, 4 PE5/TRACED2/FSMC_A21, 5 PE6/TRACED3/FSMC_A22, 6 VBAT, 7 PC13-TAMPER-RTC, 8 PC14-OSC32_IN, 9 PC15-OSC32_OUT, 10 PF0/FSMC_A0, 11 PF1/FSMC_A1, 12 PF2/FSMC_A2, 13 PF3/FSMC_A3, 14 PF4/FSMC_A4, 15 PF5/FSMC_A5, 16 VSS, 17 VDD, 18 PF6/ADC3_IN4/FSMC_NIORD, 19 PF7/ADC3_IN5/FSMC_NREG, 20 PF8/ADC3_IN6/FSMC_NIOWR, 21 PF9/ADC3_IN7/FSMC_CD, 22 PF10/ADC3_IN8/FSMC_INTR, 23 OSC_IN, 24 OSC_OUT, 25 NRST, 26 PC0/ADC123_IN10, 27 PC1/ADC123_IN11, 28 PC2/ADC123_IN12, 29 PC3/ADC123_IN13, 30 VSSA, 31 Vref-, 32 Vref+, 33 VDDA, 34 PA0-WKUP/USART2_CTS/ADC123_IN0/TIM5_CH1/TIM2_CH1_ETR/TIM8_ETR, 35 PA1/USART2_RTS/ADC123_IN1/TIM5_CH2/TIM2_CH2, 36 PA2/USART2_TX/ADC123_IN2/TIM5_CH3/TIM2_CH3, 37 PA3/USART2_RX/ADC123_IN3/TIM5_CH4/TIM2_CH4, 38 VSS, 39 VDD, 40 PA4/SPI1_NSS/DAC_OUT1/USART2_CK/ADC12_IN4, 41 PA5/SPI1_SCK/DAC_OUT2/ADC12_IN5, 42 PA6/SPI1_MISO/TIM8_BKIN/ADC12_IN6/TIM3_CH1, 43 PA7/SPI1_MOSI/TIM8_CH1N/ADC12_IN7/TIM3_CH2, 44 PC4/ADC12_IN14, 45 PC5/ADC12_IN15, 46 PB0/ADC12_IN8/TIM3_CH3/TIM8_CH2N, 47 PB1/ADC12_IN9/TIM3_CH4/TIM8_CH3N, 48 PB2/BOOT1, 49 PF11/FSMC_NIOS16, 50 PF12/FSMC_A6, 51 VSS, 52 VDD, 53 PF13/FSMC_A7, 54 PF14/FSMC_A8, 55 PF15/FSMC_A9, 56 PG0/FSMC_A10, 57 PG1/FSMC_A11, 58 PE7/FSMC_D4, 59 PE8/FSMC_D5, 60 PE9/FSMC_D6, 61 VSS, 62 VDD, 63 PE10/FSMC_D7, 64 PE11/FSMC_D8, 65 PE12/FSMC_D9, 66 PE13/FSMC_D10, 67 PE14/FSMC_D11, 68 PE15/FSMC_D12, 69 PB10/I2C2_SCL/USART3_TX, 70 PB11/I2C2_SDA/USART3_RX, 71 VSS, 72 VDD, 73 PB12/SPI2_NSS/I2S2_WS/I2C2_SMBAI/USART3_CK/TIM1BKIN, 74 PB13/SPI2_SCK/I2S2_CK/USART3_CTS/TIM1_CH1N, 75 PB14/SPI2_MISO/USART3_RTS/TIM1_CH2N, 76 PB15/SPI2_MOSI/I2S2_SD/TIM1_CH3N, 77 PD8/FSMC_D13, 78 PD9/FSMC_D14, 79 PD10/FSMC_D15, 80 PD11/FSMC_A16, 81 PD12/FSMC_A17, 82 PD13/FSMC_A18, 83 VSS, 84 VDD, 85 PD14/FSMC_D0, 86 PD15/FSMC_D1, 87 PG2/FSMC_A12, 88 PG3/FSMC_A13, 89 PG4/FSMC_A14, 90 PG5/FSMC_A15, 91 PG6/FSMC_INT2, 92 PG7/FSMC_INT3, 93 PG8, 94 VSS, 95 VDD, 96 PC6/I2S2_MCK/TIM8_CH1/SDIO_D6, 97 PC7/I2S3_MCK/TIM8_CH2/SDIO_D7, 98 PC8/TIM8_CH3/SDIO_D0, 99 PC9/TIM8_CH4/SDIO_D1, 100 PA8/USART1_CK/TIM1_CH1/MCO, 101 PA9/USART1_TX/TIM1_CH2, 102 PA10/USART1_RX/TIM1_CH3, 103 PA11/USART1_CTS/CAN_RX/TIM1_CH4/USBDM, 104 PA12/USART1_RTS/CAN_TX/TIM1_ETR/USBDP, 105 PA13/JTMS_SWDIO, 106 NC, 107 VSS, 108 VDD, 109 PA14/JTCK_SWCLK, 110 PA15/JTDI/SPI3_NSS/I2S3_WS, 111 PC10/UART4_TX/SDIO_D2, 112 PC11/UART4_RX/SDIO_D3, 113 PC12/UART5_TX/SDIO_CK, 114 PD0/FSMC_D2, 115 PD1/FSMC_D3, 116 PD2/TIM3_ETR/UART5_RX/SDIO_CMD, 117 PD3/FSMC_CLK, 118 PD4/FSMC_NOE, 119 PD5/FSMC_NWE, 120 VSS, 121 VDD, 122 PD6/FSMC_NWAIT, 123 PD7/FSMC_NE1/FSMC_NCE2, 124 PG9/FSMC_NE2/FSMC_NCE3, 125 PG10/FSMC_NCE4_1/FSMC_NE3, 126 PG11/FSMC_NCE4_2, 127 PG12/FSMC_NE4, 128 PG13/FSMC_A24, 129 PG14/FSMC_A25, 130 VSS, 131 VDD, 132 PG15, 133 PB3/JTDO/TRACESWO/SPI3_SCK/I2S3_CK, 134 PB4/JNTRST/SPI3_MISO, 135 PB5/I2C1_SMBAI/SPI3_MOSI/I2S3_SD, 136 PB6/I2C1_SCL/TIM4_CH1, 137 PB7/I2C1_SDA/FSMC_NADV/TIM4_CH2, 138 BOOT0, 139 PB8/TIM4_CH3/SDIO_D4, 140 PB9/TIM4_CH4/SDIO_D5, 141 PE0/TIM4_ETR/FSMC_NBL0, 142 PE1/FSMC_NBL1, 143 VSS, 144 VDD

## SWITCH
designator SW?  (value not drawn)
1 SWITCH WITH 2-PIN
pins: 1, 2

## SWITCH-BUTTON
designator K?, comment BUTTON
SWITCH-BUTTON
footprint BTN-8R5X8R5 (0.8MM X 1.5MM X 6PIN, 8.5MM X 8.5MM)
pins: 1 I/O1, 2 TAP1, 3 I/O1, 4 I/O2, 5 TAP2, 6 I/O2

## SWITCH-TOUCH
designator SW?, comment TS-1033
Typical Specifications,Rating : DC 12V 50mA,Contact Resistance : 100mΩ max,Travel:0.25±0.1mm / .Life : 100,000 Cycles Min
footprint SW4TM-6R2X6R2
pins: 1, 2, 3, 4

## SWITCH-TOUCH-2pin
designator SW?, comment SWITCH-TOUCH-4pin  (value not drawn)
footprint KEY_M-5R08X7R0
pins: 1, 2

## TDA1308T_N2
designator IC?
Integrated Circuit; Manufacturer_Name: Nexperia; Manufacturer_Part_Number: TDA1308T/N2; Datasheet Link: https://componentsearchengine.com/Datasheets/1/TDA1308T_N2.pdf; Height: 1.75mm; Arrow Part Number: TDA1308T/N2; Mouser Part Number: N/A; Mouser Price/Stock: https://www.mouser.com/Search/Refine.aspx?Keyword=N%2FA
footprint SOIC127P600X175-8N
pins: 1 OUTA, 2 INA-, 3 INA+, 4 VSS, 5 INB+, 6 INB-, 7 OUTB, 8 VDD

## TFT-3.5'
designator LCD?, comment TFT3.5'
3.5寸,带触摸,分辨率:480*320
footprint TFT3.5' (TFT,LCD,480*320,3.5',TOUCH,16bit)
pins: 1 GND, 2 VDD, 3 IOVCC, 4 CS, 5 RS, 6 WR, 7 RD, 8 RST, 9 DB0, 10 DB1, 11 DB2, 12 DB3, 13 DB4, 14 DB5, 15 DB6, 16 DB7, 17 DB8, 18 DB9, 19 DB10, 20 DB11, 21 DB12, 22 DB13, 23 DB14, 24 DB15, 25 FMARK, 26 Y-, 27 X-, 28 Y+, 29 X+, 30 LEDK1, 31 LEDK2, 32 LEDK3, 33 LEDK4, 34 LEDK5, 35 LEDK6, 36 LEDA, 37 GND

## TFT-4.3‘
designator TFT?, comment TFT-4.3'
4.3寸,电容/电阻触摸,分辨率:480*800
footprint TFT4.3' (TFT,LCD,480*800,4.3',TOUCH,16bit)
pins: 1 GND, 2 VDD, 3 IOVCC, 4 CS, 5 RS, 6 WR, 7 RD, 8 RST, 9 DB0, 10 DB1, 11 DB2, 12 DB3, 13 DB4, 14 DB5, 15 DB6, 16 DB7, 17 DB8, 18 DB9, 19 DB10, 20 DB11, 21 DB12, 22 DB13, 23 DB14, 24 DB15, 25 NC, 26 Y-, 27 X-, 28 Y+, 29 X+, 30 NC, 31 NC, 32 NC, 33 NC, 34 LED_K, 35 LED_A, 36 NC, 37 GND

## TFT-LCD
designator TFT?
TFT-LCD Port, DB1~DB8,DB10~17
footprint db17X2-4R3
pins: 1 LCD_CS, 2 RS, 3 WR/CLK, 4 RD, 5 RST, 6 DB1, 7 DB2, 8 DB3, 9 DB4, 10 DB5, 11 DB6, 12 DB7, 13 DB8, 14 DB10, 15 DB11, 16 DB12, 17 DB13, 18 DB14, 19 DB15, 20 DB16, 21 DB17, 22 GND, 23 BL, 24 VDD3.3, 25 VDD3.3, 26 GND, 27 GND, 28 BL_VDD, 29 MISO, 30 MOSI, 31 T_PEN, 32 MO, 33 T_CS, 34 CLK

## TFT_LCD_2
designator LCD?
TFT_LCD PORT,DB0~DB15
footprint DB17X2-3R5 (TFT-LCD 17X2 3R5)
pins: 1 CS, 2 RS, 3 WR, 4 RD, 5 RST, 6 DB0, 7 DB1, 8 DB2, 9 DB3, 10 DB4, 11 DB5, 12 DB6, 13 DB7, 14 DB8, 15 DB9, 16 DB10, 17 DB11, 18 DB12, 19 DB13, 20 DB14, 21 DB15, 22 GND, 23 BL, 24 VDD3.3, 25 VDD3.3, 26 GND, 27 GND, 28 BL_VDD, 29 MISO, 30 MOSI, 31 T_PEN, 32 MO, 33 T_CS, 34 CLK

## TJA1050T
designator IC?
Integrated Circuit; Manufacturer_Name: Nexperia; Manufacturer_Part_Number: TJA1050T; Datasheet Link: http://docs-emea.rs-online.com/webdocs/0425/0900766b80425301.pdf; Height: 1.75mm; Arrow Part Number: TJA1050T; Mouser Part Number: N/A; Mouser Price/Stock: https://www.mouser.com/Search/Refine.aspx?Keyword=N%2FA
footprint SOIC127P600X175-8N
pins: 1 TXD, 2 GND (power), 3 VCC (power), 4 RXD, 5 VREF (in), 6 CANL, 7 CANH, 8 S

## TP
designator TP?, comment TEST POINT  (value not drawn)
footprint TP-S-0R9 (test point, surface pad, 0.9mm round)
footprint TP-P-1R05 (test point, plug, pad 1.85mm, hole 1.05mm)
pins: 1

## TRANS
designator T?
Voltage Transformer
pins: 1, 2, 3, 4, 5, 6

## TVS-SMBJ
designator D?, comment SMBJ5.0A
TVS
footprint SMBJ (3.9*5.6)
pins: 1, 2

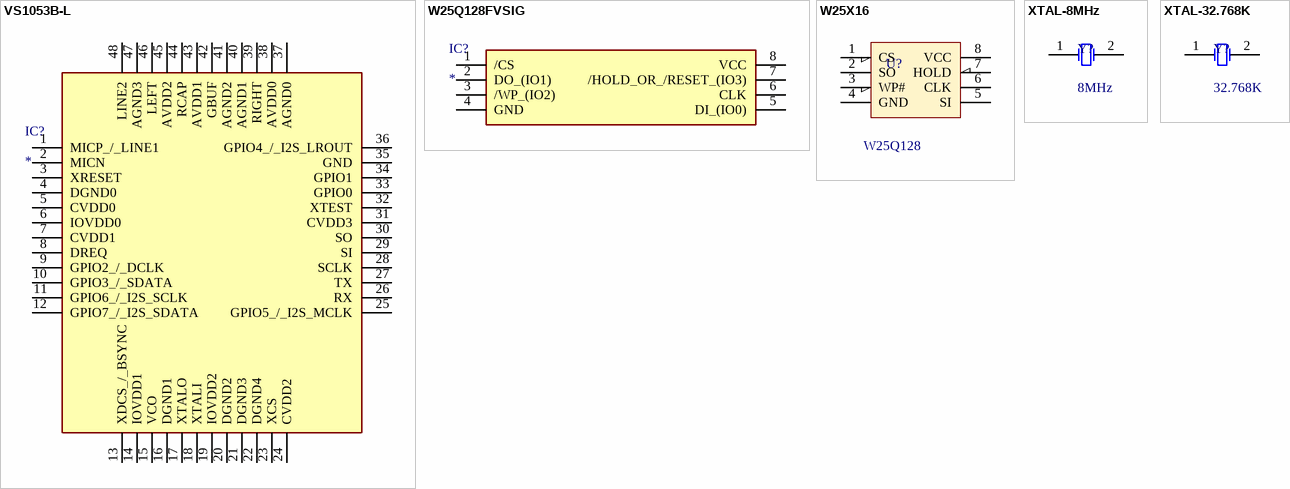
[diagram p3: symbols VS1053B-L to XTAL-32.768K]

## VS1053B-L
designator IC?
Integrated Circuit; Manufacturer_Name: VLSI; Manufacturer_Part_Number: VS1053B-L; Datasheet Link: https://www.sparkfun.com/datasheets/Components/SMD/vs1053.pdf; Height: 1.6mm; Arrow Part Number: VS1053B-L
footprint QFP50P900X900X160-48N
pins: 1 MICP_/_LINE1, 2 MICN, 3 XRESET, 4 DGND0, 5 CVDD0, 6 IOVDD0, 7 CVDD1, 8 DREQ, 9 GPIO2_/_DCLK, 10 GPIO3_/_SDATA, 11 GPIO6_/_I2S_SCLK, 12 GPIO7_/_I2S_SDATA, 13 XDCS_/_BSYNC, 14 IOVDD1, 15 VCO, 16 DGND1, 17 XTALO, 18 XTALI, 19 IOVDD2, 20 DGND2, 21 DGND3, 22 DGND4, 23 XCS, 24 CVDD2, 25 GPIO5_/_I2S_MCLK, 26 RX, 27 TX, 28 SCLK, 29 SI, 30 SO, 31 CVDD3, 32 XTEST, 33 GPIO0, 34 GPIO1, 35 GND, 36 GPIO4_/_I2S_LROUT, 37 AGND0, 38 AVDD0, 39 RIGHT, 40 AGND1, 41 AGND2, 42 GBUF, 43 AVDD1, 44 RCAP, 45 AVDD2, 46 LEFT, 47 AGND3, 48 LINE2

## W25Q128FVSIG
designator IC?
Integrated Circuit; Manufacturer_Name: Winbond; Manufacturer_Part_Number: W25Q128FVSIG; Datasheet Link: https://www.winbond.com/resource-files/w25q128fv rev.m 05132016 kms.pdf; Height: 2.16mm; Arrow Part Number: W25Q128FVSIG; Arrow Price/Stock: https://www.arrow.com/en/products/w25q128fvsig/winbond-electronics; Mouser Part Number: N/A; Mouser Price/Stock: https://www.mouser.co.uk/ProductDetail/Winbond/W25Q128FVSIG?qs=rkhjVJ6%2F3EIwu4pV702YLQ%3D%3D
footprint SOIC127P790X216-8N
pins: 1 /CS, 2 DO_(IO1), 3 /WP_(IO2), 4 GND, 5 DI_(IO0), 6 CLK, 7 /HOLD_OR_/RESET_(IO3), 8 VCC

## W25X16
designator U?, comment W25Q128
W25X16;SST25VF016;MX25L1605
footprint SOIC8 (SOIC8, total 7 pins without pin 7)
pins: 1 CS, 2 SO, 3 WP#, 4 GND, 5 SI, 6 CLK, 7 HOLD, 8 VCC

## XTAL-8MHz
designator Y?, comment 8MHz
Crystal Oscillator 8MHz(>3mhz); Published: 8-Jun-2000; LatestRevisionDate: 17-Jul-2002; LatestRevisionNote: Re-released for DXP Platform.; Publisher: Altium Limited
footprint XTAL_US
simulation model XTAL (Spice Subcircuit)
footprint XTAL_US -1
pins: 1 OSC1, 2 OSC2

## XTAL-32.768K
designator Y?, comment 32.768K
Crystal Oscillator 32.768K; Published: 8-Jun-2000; LatestRevisionDate: 17-Jul-2002; LatestRevisionNote: Re-released for DXP Platform.; Publisher: Altium Limited
simulation model XTAL (Spice Subcircuit)
footprint XTAL-32kHz (32.768kHz)
footprint XTAL-32KHZ-R (32.768kHz)
pins: 1 OSC1, 2 OSC2